# Altium footprint library Sensors.PcbLib: 12 footprints
Each footprint in its own frame and in the unit in brackets; x right, y up, seen from the top. Pads: shape width x height; smd on the part's side, far side on the other; paste and mask are expansions set on the pad; w line width, h text height; cw(c..) or ccw(c..) is an arc to the next point about the centre after c.
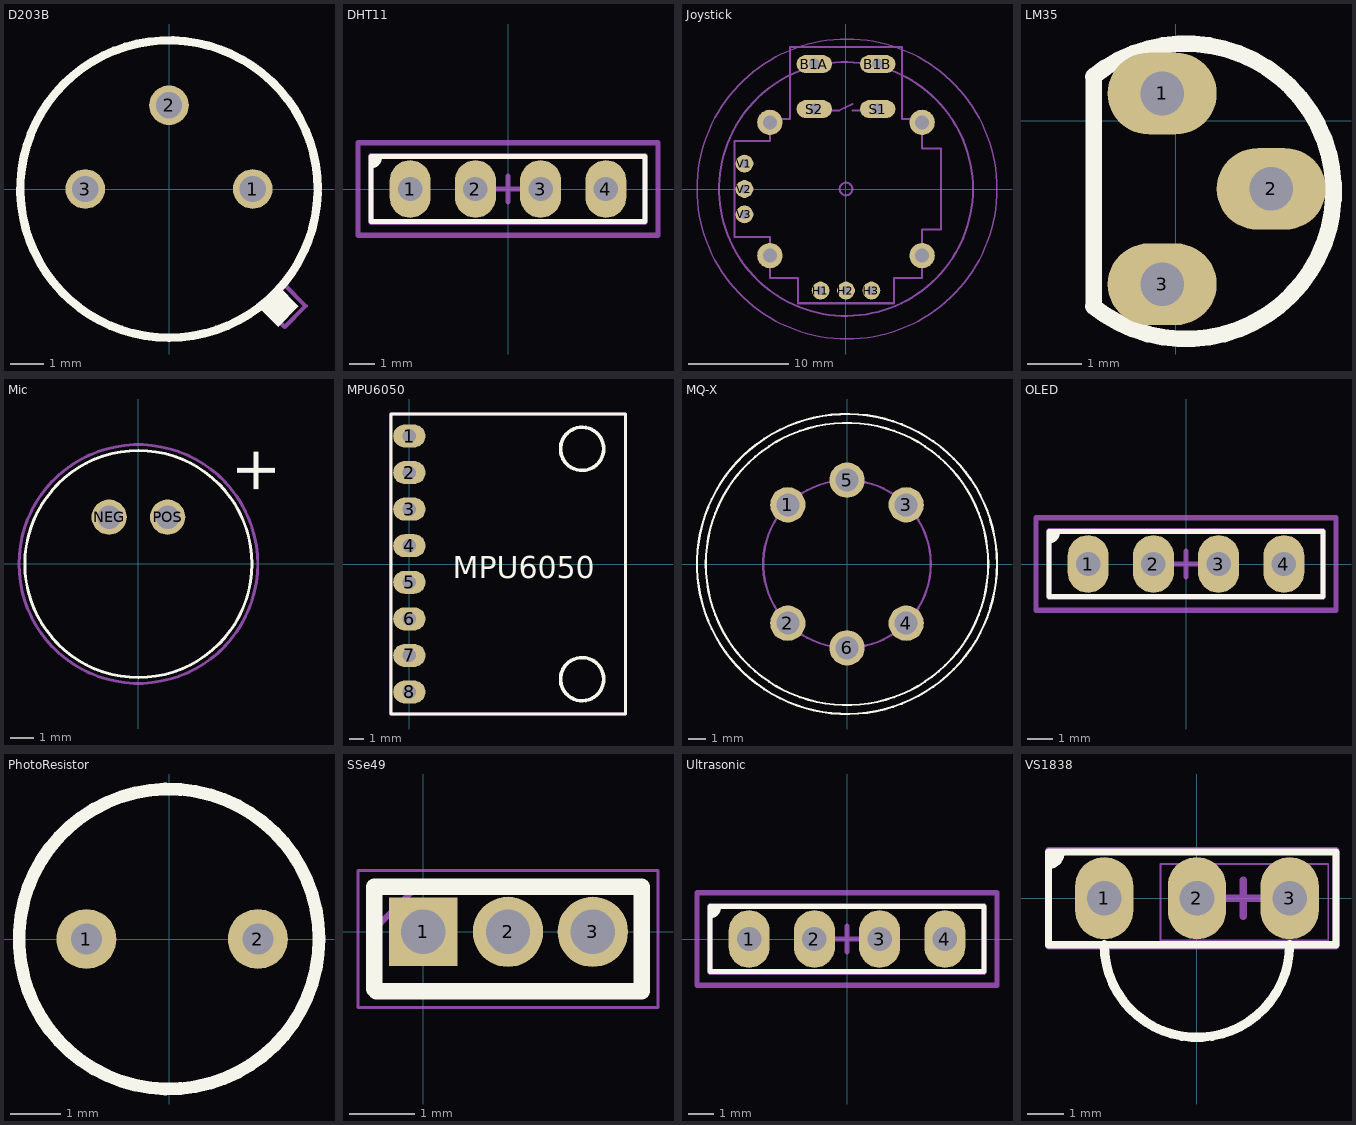
[diagram p0: the footprints below, top view; thin cyan lines are the x and y axes]

## D203B [mil]
pads (3):
  round 47.25 / inner round 60 / far side round 47.25 hole 31.5: 1(100,0) 2(0,100) 3(-100,0)
Top Overlay:
  region: 130.25,-164.75 155,-140 130.25,-115.25 105.5,-140
  lines w10: 177.49,-4.8 cw(c0,0) 177.55,0
Mechanical 22:
  circle w5: c0,0 r179.13
  lines w5: 113.2,-139.7 138.2,-164.7 163.2,-139.7 138.2,-114.7
3D body "d203b - to-5.stp": height 210.63, standoff -78.74, extent -254.71,-276.99 277,254.73

## DHT11 [mm] "DHT11 Humidity/Temp Sensor"
height 8.51
pads (4):
  oval 1.6x2.25 hole 0.95: 1(-3.81,0) 2(-1.27,0) 3(1.27,0) 4(3.81,0)
Top Overlay:
  region: -5.34,1.27 -5,1.27 -5,1.1 -5.2,0.9 -5.34,0.9
  lines w0.2: -5.34,0.9 ccw(c-5.34,1.24) -5,1.24 -5,1.27 ; -5.34,-1.27 -5.34,1.27 5.34,1.27 5.34,-1.27 -5.34,-1.27
Mechanical 13:
  lines w0.2: -5.34,-1.3 5.34,-1.3 5.34,1.3 -5.34,1.3 -5.34,-1.3
Mechanical 15:
  lines w0.2: -0.5,0 0.5,0 ; 0,-0.5 0,0.5 ; -5.84,-1.8 -5.84,1.8 5.84,1.8 5.84,-1.8 -5.84,-1.8
3D body "DHT.SLDPRT": height 5.5, standoff 0, extent -6,1.905 6,17.405

## Joystick [mil] "2 axis Joystick"
pads (14):
  oval 140x70 / inner round 60 / far side oval 140x70 hole 43.31: B1A(-125,492.17) B1B(125,492.17) S1(125,315) S2(-125,315)
  round 70 / inner round 60 / far side round 70 hole 35: H1(-100,-400) H2(0,-400) H3(100,-400) V1(-400,100) V2(-400,0) V3(-400,-100)
  round 100 / inner round 60 / far side round 100 hole 55: MOUNT1(-300,262.5) MOUNT2(-300,-262.5) MOUNT3(300,-262.5) MOUNT4(300,262.5)
Mechanical 8:
  circle w5: c3.94,0 r590.88
  circle w8: c0,0 r500
  lines w8: -75,310 -25,310 25,335 ; 25,310 75,310
Mechanical 22:
  circle w8: c0,0 r25
  lines w8: -440,-190 -440,190 -300,190 -300,275 -220,275 -220,560 220,560 220,275 300,275 300,160 375,160 375,-160 300,-160 300,-350 190,-350 190,-450 -190,-450 -190,-350 -300,-350 -300,-190 -440,-190
3D body "User Library-ALPS JOYSTICK.STEP": height 1184.72, standoff -145.41, extent -515,-526.58 520.43,616.58

## LM35 [mm]
pads (3):
  oval 2x1.5 hole 0.8: 1(-0.25,0.5) 2(1.75,-1.25) 3(-0.25,-3)
Top Overlay:
  lines w0.305: -1.519,-3.401 ccw(c0.186,-1.295) -1.519,0.81 ; -1.507,-3.412 -1.507,0.821
3D body "TO-92.stp": height 6.18, standoff -3, extent -1.272,-3.556 2.288,1.016

## Mic [mm] "Electret Microphone"
pads (2):
  round 1.508 hole 1: NEG(-1.25,2) POS(1.25,2)
Top Overlay:
  circle w0.127: c0,0 r4.85
  text "+" at 5.842,2.921 h1.88
Mechanical 1:
  circle w0.127: c0,0 r5.1
3D body "User Library-Panasonic_Microphone_WM52BM.STEP": height 5.15, standoff -4.02, extent -4.85,-4.85 4.85,4.85
3D body: height 4.35, standoff -3, extent -0.762,-0.127 -0.762,-0.127

## MPU6050 [mm]
height 8.51
pads (8):
  oval 2.25x1.6 hole 0.95: 1(0,8.89) 2(0,6.35) 3(0,3.81) 4(0,1.27) 5(0,-1.27) 6(0,-3.81) 7(0,-6.35) 8(0,-8.89)
Top Overlay:
  circle w0.254: c12,8 r1.5
  circle w0.254: c12,-8 r1.5
  lines w0.2: -1.27,-10.42 15,-10.42 15,10.42 -1.27,10.42 -1.27,-10.42
  text "MPU6050" at 3,-1 h1.52
Mechanical 13:
  lines w0.2: -1.3,-10.42 -1.3,10.42 15,10.42 15,-10.42 -1.3,-10.42

## MQ-X [mm]
pads (6):
  round 2 hole 1.3: 1(-3.355,3.355) 2(-3.355,-3.355) 3(3.355,3.355) 4(3.355,-3.355) 5(0,4.75) 6(0,-4.75)
Top Overlay:
  circle w0.127: c0,0 r8
  circle w0.127: c0,0 r8.5
Mechanical 1:
  circle w0.127: c0,0 r4.75
  circle w0.127: c0,0 r4.75
3D body "User Library-MQ-5.STEP": height 16.06, standoff -7, extent -9.5,-9.5 9.5,9.5

## OLED [mm] "SSD1306 OLED Display 0.96"
height 8.51
pads (4):
  oval 1.6x2.25 hole 0.95: 1(-3.81,0) 2(-1.27,0) 3(1.27,0) 4(3.81,0)
Top Overlay:
  region: -5.34,1.27 -5,1.27 -5,1.1 -5.2,0.9 -5.34,0.9
  lines w0.2: -5.34,0.9 ccw(c-5.34,1.24) -5,1.24 -5,1.27 ; -5.34,-1.27 -5.34,1.27 5.34,1.27 5.34,-1.27 -5.34,-1.27
Mechanical 13:
  lines w0.2: -5.34,-1.3 5.34,-1.3 5.34,1.3 -5.34,1.3 -5.34,-1.3
Mechanical 15:
  lines w0.2: -0.5,0 0.5,0 ; 0,-0.5 0,0.5 ; -5.84,-1.8 -5.84,1.8 5.84,1.8 5.84,-1.8 -5.84,-1.8
3D body "oled.STEP": height 5.47, standoff -5.37, extent -13.35,-25.447 13.35,2.413

## PhotoResistor [mm]
pads (2):
  round 1.2 hole 0.62: 1(-1.651,0) 2(1.778,0)
Top Overlay:
  circle w0.254: c0,0 r3
3D body "ldr.SLDPRT": height 6.5, standoff -26, extent -2.373,-2.15 2.627,2.15

## SSe49 [mm]
pads (3):
  rect 1.046x1.046 / inner rect 1.524x1.524 / far side rect 1.046x1.046 hole 0.68: 1(0,0)
  round 1.08 / inner round 1.524 / far side round 1.08 hole 0.68: 2(1.3,0) 3(2.6,0)
Top Overlay:
  lines w0.2: -0.75,0.69 3.35,0.69 3.35,-0.91
  lines w0.254: -0.75,-0.877 -0.75,0.69 3.35,0.69 3.35,-0.91 -0.717,-0.91 -0.75,-0.877
Mechanical 8:
  lines w0.1: -0.75,0.04 -0.1,0.69 ; -0.75,-0.91 -0.75,0.69 3.35,0.69 3.35,-0.91 -0.75,-0.91
Mechanical 22:
  lines w0.05: -1,-1.16 -1,0.94 3.6,0.94 3.6,-1.16 -1,-1.16
3D body "TO-92.stp": height 8.18, standoff -1, extent -1.016,-1.143 3.556,2.417

## Ultrasonic [mm] "Ultrasonic Sensor HC-SR04"
height 8.51
pads (4):
  oval 1.6x2.25 hole 0.95: 1(-3.81,0) 2(-1.27,0) 3(1.27,0) 4(3.81,0)
Top Overlay:
  region: -5.34,1.27 -5,1.27 -5,1.1 -5.2,0.9 -5.34,0.9
  lines w0.2: -5.34,0.9 ccw(c-5.34,1.24) -5,1.24 -5,1.27 ; -5.34,-1.27 5.34,-1.27 5.34,1.27 -5.34,1.27 -5.34,-1.27
Mechanical 13:
  lines w0.2: -5.34,-1.3 -5.34,1.3 5.34,1.3 5.34,-1.3 -5.34,-1.3
Mechanical 15:
  lines w0.2: -0.5,0 0.5,0 ; 0,-0.5 0,0.5 ; -5.84,-1.8 5.84,-1.8 5.84,1.8 -5.84,1.8 -5.84,-1.8
3D body "HC_SRO4.step": height 21.2, standoff -4.6, extent -20.5,-17.718 20.5,0.282

## VS1838 [mm]
pads (3):
  oval 1.6x2.25 hole 0.95: 1(-2.54,0) 2(0,0) 3(2.54,0)
Top Overlay:
  region: -4.07,1.27 -3.73,1.27 -3.73,1.1 -3.93,0.9 -4.07,0.9
  lines w0.2: -4.07,0.9 ccw(c-4.07,1.24) -3.73,1.24 -3.73,1.27 ; -4.07,-1.27 -4.07,1.27 3.81,1.27 3.81,-1.27 -4.07,-1.27
  lines w0.254: -2.54,-1.27 ccw(c0,-1.27) 2.54,-1.27
Mechanical 13:
  lines w0.2: -4.07,-1.3 3.81,-1.3 3.81,1.3 -4.07,1.3 -4.07,-1.3
Mechanical 15:
  lines w0.2: 0.77,0 1.77,0 ; 1.27,-0.5 1.27,0.5
Mechanical 22:
  lines w0.05: -1,-1.16 -1,0.94 3.6,0.94 3.6,-1.16 -1,-1.16
3D body: height 5.7, standoff 0, extent 0.889,-0.127 0.889,-0.127
3D body "User Library-vs1838bFull 22mm.STEP": height 12.8, standoff -16.79, extent -3.623,-3.556 3.623,1.244